# Altium footprint library movandi_pcb.PcbLib: 4 footprints
Each footprint in its own frame and in the unit in brackets; x right, y up, seen from the top. Pads: shape width x height; smd on the part's side, far side on the other; paste and mask are expansions set on the pad; w line width, h text height; cw(c..) or ccw(c..) is an arc to the next point about the centre after c.
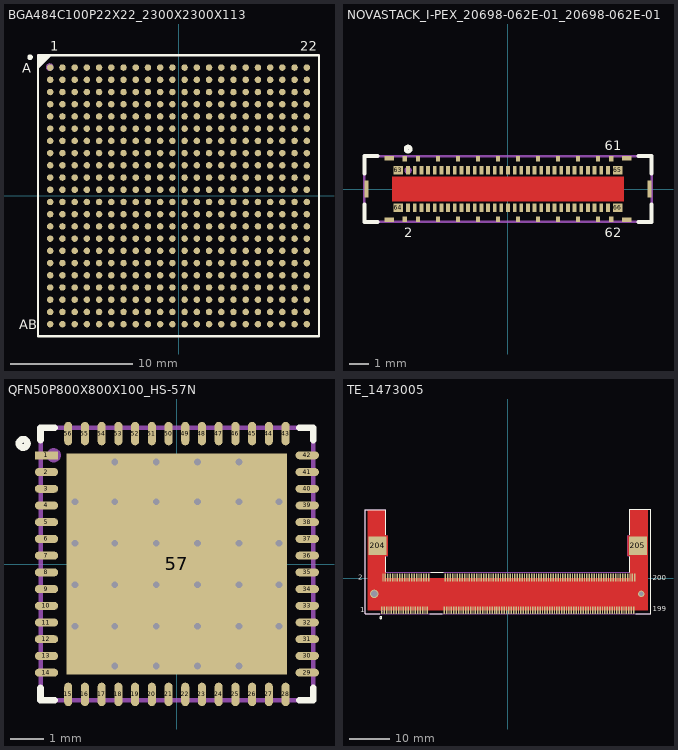
[diagram p0: the footprints below, top view; thin cyan lines are the x and y axes]

## BGA484C100P22X22_2300X2300X113 [mm] "BGA, 484-Leads, Body 23.00x23.00mmx1.13mm, Pitch 1.00mm"
height 1.13
pads (484):
  round 0.53 smd mask+0.102: A1(-10.5,10.5)
  round 0.53 smd: A2(-9.5,10.5) A3(-8.5,10.5) A4(-7.5,10.5) A5(-6.5,10.5) A6(-5.5,10.5) A7(-4.5,10.5) A8(-3.5,10.5) A9(-2.5,10.5) A10(-1.5,10.5) A11(-0.5,10.5) A12(0.5,10.5) A13(1.5,10.5) A14(2.5,10.5) A15(3.5,10.5) A16(4.5,10.5) A17(5.5,10.5) A18(6.5,10.5) A19(7.5,10.5) A20(8.5,10.5) A21(9.5,10.5) A22(10.5,10.5) AA1(-10.5,-9.5) AA2(-9.5,-9.5) AA3(-8.5,-9.5) AA4(-7.5,-9.5) AA5(-6.5,-9.5) AA6(-5.5,-9.5) AA7(-4.5,-9.5) AA8(-3.5,-9.5) AA9(-2.5,-9.5) AA10(-1.5,-9.5) AA11(-0.5,-9.5) AA12(0.5,-9.5) AA13(1.5,-9.5) AA14(2.5,-9.5) AA15(3.5,-9.5) AA16(4.5,-9.5) AA17(5.5,-9.5) AA18(6.5,-9.5) AA19(7.5,-9.5) AA20(8.5,-9.5) AA21(9.5,-9.5) AA22(10.5,-9.5) AB1(-10.5,-10.5) AB2(-9.5,-10.5) AB3(-8.5,-10.5) AB4(-7.5,-10.5) AB5(-6.5,-10.5) AB6(-5.5,-10.5) AB7(-4.5,-10.5) AB8(-3.5,-10.5) AB9(-2.5,-10.5) AB10(-1.5,-10.5) AB11(-0.5,-10.5) AB12(0.5,-10.5) AB13(1.5,-10.5) AB14(2.5,-10.5) AB15(3.5,-10.5) AB16(4.5,-10.5) AB17(5.5,-10.5) AB18(6.5,-10.5) AB19(7.5,-10.5) AB20(8.5,-10.5) AB21(9.5,-10.5) AB22(10.5,-10.5) B1(-10.5,9.5) B2(-9.5,9.5) B3(-8.5,9.5) B4(-7.5,9.5) B5(-6.5,9.5) B6(-5.5,9.5) B7(-4.5,9.5) B8(-3.5,9.5) B9(-2.5,9.5) B10(-1.5,9.5) B11(-0.5,9.5) B12(0.5,9.5) B13(1.5,9.5) B14(2.5,9.5) B15(3.5,9.5) B16(4.5,9.5) B17(5.5,9.5) B18(6.5,9.5) B19(7.5,9.5) B20(8.5,9.5) B21(9.5,9.5) B22(10.5,9.5) C1(-10.5,8.5) C2(-9.5,8.5) C3(-8.5,8.5) C4(-7.5,8.5) C5(-6.5,8.5) C6(-5.5,8.5) C7(-4.5,8.5) C8(-3.5,8.5) C9(-2.5,8.5) C10(-1.5,8.5) C11(-0.5,8.5) C12(0.5,8.5) C13(1.5,8.5) C14(2.5,8.5) C15(3.5,8.5) C16(4.5,8.5) C17(5.5,8.5) C18(6.5,8.5) C19(7.5,8.5) C20(8.5,8.5) C21(9.5,8.5) C22(10.5,8.5) D1(-10.5,7.5) D2(-9.5,7.5) D3(-8.5,7.5) D4(-7.5,7.5) D5(-6.5,7.5) D6(-5.5,7.5) D7(-4.5,7.5) D8(-3.5,7.5) D9(-2.5,7.5) D10(-1.5,7.5) D11(-0.5,7.5) D12(0.5,7.5) D13(1.5,7.5) D14(2.5,7.5) D15(3.5,7.5) D16(4.5,7.5) D17(5.5,7.5) D18(6.5,7.5) D19(7.5,7.5) D20(8.5,7.5) D21(9.5,7.5) D22(10.5,7.5) E1(-10.5,6.5) E2(-9.5,6.5) E3(-8.5,6.5) E4(-7.5,6.5) E5(-6.5,6.5) E6(-5.5,6.5) E7(-4.5,6.5) E8(-3.5,6.5) E9(-2.5,6.5) E10(-1.5,6.5) E11(-0.5,6.5) E12(0.5,6.5) E13(1.5,6.5) E14(2.5,6.5) E15(3.5,6.5) E16(4.5,6.5) E17(5.5,6.5) E18(6.5,6.5) E19(7.5,6.5) E20(8.5,6.5) E21(9.5,6.5) E22(10.5,6.5) F1(-10.5,5.5) F2(-9.5,5.5) F3(-8.5,5.5) F4(-7.5,5.5) F5(-6.5,5.5) F6(-5.5,5.5) F7(-4.5,5.5) F8(-3.5,5.5) F9(-2.5,5.5) F10(-1.5,5.5) F11(-0.5,5.5) F12(0.5,5.5) F13(1.5,5.5) F14(2.5,5.5) F15(3.5,5.5) F16(4.5,5.5) F17(5.5,5.5) F18(6.5,5.5) F19(7.5,5.5) F20(8.5,5.5) F21(9.5,5.5) F22(10.5,5.5) G1(-10.5,4.5) G2(-9.5,4.5) G3(-8.5,4.5) G4(-7.5,4.5) G5(-6.5,4.5) G6(-5.5,4.5) G7(-4.5,4.5) G8(-3.5,4.5) G9(-2.5,4.5) G10(-1.5,4.5) G11(-0.5,4.5) G12(0.5,4.5) G13(1.5,4.5) G14(2.5,4.5) G15(3.5,4.5) G16(4.5,4.5) G17(5.5,4.5) G18(6.5,4.5) G19(7.5,4.5) G20(8.5,4.5) G21(9.5,4.5) G22(10.5,4.5) H1(-10.5,3.5) H2(-9.5,3.5) H3(-8.5,3.5) H4(-7.5,3.5) H5(-6.5,3.5) H6(-5.5,3.5) H7(-4.5,3.5) H8(-3.5,3.5) H9(-2.5,3.5) H10(-1.5,3.5) H11(-0.5,3.5) H12(0.5,3.5) H13(1.5,3.5) H14(2.5,3.5) H15(3.5,3.5) H16(4.5,3.5) H17(5.5,3.5) H18(6.5,3.5) H19(7.5,3.5) H20(8.5,3.5) H21(9.5,3.5) H22(10.5,3.5) J1(-10.5,2.5) J2(-9.5,2.5) J3(-8.5,2.5) J4(-7.5,2.5) J5(-6.5,2.5) J6(-5.5,2.5) J7(-4.5,2.5) J8(-3.5,2.5) J9(-2.5,2.5) J10(-1.5,2.5) J11(-0.5,2.5) J12(0.5,2.5) J13(1.5,2.5) J14(2.5,2.5) J15(3.5,2.5) J16(4.5,2.5) J17(5.5,2.5) J18(6.5,2.5) J19(7.5,2.5) J20(8.5,2.5) J21(9.5,2.5) J22(10.5,2.5) K1(-10.5,1.5) K2(-9.5,1.5) K3(-8.5,1.5) K4(-7.5,1.5) K5(-6.5,1.5) K6(-5.5,1.5) K7(-4.5,1.5) K8(-3.5,1.5) K9(-2.5,1.5) K10(-1.5,1.5) K11(-0.5,1.5) K12(0.5,1.5) K13(1.5,1.5) K14(2.5,1.5) K15(3.5,1.5) K16(4.5,1.5) K17(5.5,1.5) K18(6.5,1.5) K19(7.5,1.5) K20(8.5,1.5) K21(9.5,1.5) K22(10.5,1.5) L1(-10.5,0.5) L2(-9.5,0.5) L3(-8.5,0.5) L4(-7.5,0.5) L5(-6.5,0.5) L6(-5.5,0.5) L7(-4.5,0.5) L8(-3.5,0.5) L9(-2.5,0.5) L10(-1.5,0.5) L11(-0.5,0.5) L12(0.5,0.5) L13(1.5,0.5) L14(2.5,0.5) L15(3.5,0.5) L16(4.5,0.5) L17(5.5,0.5) L18(6.5,0.5) L19(7.5,0.5) L20(8.5,0.5) L21(9.5,0.5) L22(10.5,0.5) M1(-10.5,-0.5) M2(-9.5,-0.5) M3(-8.5,-0.5) M4(-7.5,-0.5) M5(-6.5,-0.5) M6(-5.5,-0.5) M7(-4.5,-0.5) M8(-3.5,-0.5) M9(-2.5,-0.5) M10(-1.5,-0.5) M11(-0.5,-0.5) M12(0.5,-0.5) M13(1.5,-0.5) M14(2.5,-0.5) M15(3.5,-0.5) M16(4.5,-0.5) M17(5.5,-0.5) M18(6.5,-0.5) M19(7.5,-0.5) M20(8.5,-0.5) M21(9.5,-0.5) M22(10.5,-0.5) N1(-10.5,-1.5) N2(-9.5,-1.5) N3(-8.5,-1.5) N4(-7.5,-1.5) N5(-6.5,-1.5) N6(-5.5,-1.5) N7(-4.5,-1.5) N8(-3.5,-1.5) N9(-2.5,-1.5) N10(-1.5,-1.5) N11(-0.5,-1.5) N12(0.5,-1.5) N13(1.5,-1.5) N14(2.5,-1.5) N15(3.5,-1.5) N16(4.5,-1.5) N17(5.5,-1.5) N18(6.5,-1.5) N19(7.5,-1.5) N20(8.5,-1.5) N21(9.5,-1.5) N22(10.5,-1.5) P1(-10.5,-2.5) P2(-9.5,-2.5) P3(-8.5,-2.5) P4(-7.5,-2.5) P5(-6.5,-2.5) P6(-5.5,-2.5) P7(-4.5,-2.5) P8(-3.5,-2.5) P9(-2.5,-2.5) P10(-1.5,-2.5) P11(-0.5,-2.5) P12(0.5,-2.5) P13(1.5,-2.5) P14(2.5,-2.5) P15(3.5,-2.5) P16(4.5,-2.5) P17(5.5,-2.5) P18(6.5,-2.5) P19(7.5,-2.5) P20(8.5,-2.5) P21(9.5,-2.5) P22(10.5,-2.5) R1(-10.5,-3.5) R2(-9.5,-3.5) R3(-8.5,-3.5) R4(-7.5,-3.5) R5(-6.5,-3.5) R6(-5.5,-3.5) R7(-4.5,-3.5) R8(-3.5,-3.5) R9(-2.5,-3.5) R10(-1.5,-3.5) R11(-0.5,-3.5) R12(0.5,-3.5) R13(1.5,-3.5) R14(2.5,-3.5) R15(3.5,-3.5) R16(4.5,-3.5) R17(5.5,-3.5) R18(6.5,-3.5) R19(7.5,-3.5) R20(8.5,-3.5) R21(9.5,-3.5) R22(10.5,-3.5) T1(-10.5,-4.5) T2(-9.5,-4.5) T3(-8.5,-4.5) T4(-7.5,-4.5) T5(-6.5,-4.5) T6(-5.5,-4.5) T7(-4.5,-4.5) T8(-3.5,-4.5) T9(-2.5,-4.5) T10(-1.5,-4.5) T11(-0.5,-4.5) T12(0.5,-4.5) T13(1.5,-4.5) T14(2.5,-4.5) T15(3.5,-4.5) T16(4.5,-4.5) T17(5.5,-4.5) T18(6.5,-4.5) T19(7.5,-4.5) T20(8.5,-4.5) T21(9.5,-4.5) T22(10.5,-4.5) U1(-10.5,-5.5) U2(-9.5,-5.5) U3(-8.5,-5.5) U4(-7.5,-5.5) U5(-6.5,-5.5) U6(-5.5,-5.5) U7(-4.5,-5.5) U8(-3.5,-5.5) U9(-2.5,-5.5) U10(-1.5,-5.5) U11(-0.5,-5.5) U12(0.5,-5.5) U13(1.5,-5.5) U14(2.5,-5.5) U15(3.5,-5.5) U16(4.5,-5.5) U17(5.5,-5.5) U18(6.5,-5.5) U19(7.5,-5.5) U20(8.5,-5.5) U21(9.5,-5.5) U22(10.5,-5.5) V1(-10.5,-6.5) V2(-9.5,-6.5) V3(-8.5,-6.5) V4(-7.5,-6.5) V5(-6.5,-6.5) V6(-5.5,-6.5) V7(-4.5,-6.5) V8(-3.5,-6.5) V9(-2.5,-6.5) V10(-1.5,-6.5) V11(-0.5,-6.5) V12(0.5,-6.5) V13(1.5,-6.5) V14(2.5,-6.5) V15(3.5,-6.5) V16(4.5,-6.5) V17(5.5,-6.5) V18(6.5,-6.5) V19(7.5,-6.5) V20(8.5,-6.5) V21(9.5,-6.5) V22(10.5,-6.5) W1(-10.5,-7.5) W2(-9.5,-7.5) W3(-8.5,-7.5) W4(-7.5,-7.5) W5(-6.5,-7.5) W6(-5.5,-7.5) W7(-4.5,-7.5) W8(-3.5,-7.5) W9(-2.5,-7.5) W10(-1.5,-7.5) W11(-0.5,-7.5) W12(0.5,-7.5) W13(1.5,-7.5) W14(2.5,-7.5) W15(3.5,-7.5) W16(4.5,-7.5) W17(5.5,-7.5) W18(6.5,-7.5) W19(7.5,-7.5) W20(8.5,-7.5) W21(9.5,-7.5) W22(10.5,-7.5) Y1(-10.5,-8.5) Y2(-9.5,-8.5) Y3(-8.5,-8.5) Y4(-7.5,-8.5) Y5(-6.5,-8.5) Y6(-5.5,-8.5) Y7(-4.5,-8.5) Y8(-3.5,-8.5) Y9(-2.5,-8.5) Y10(-1.5,-8.5) Y11(-0.5,-8.5) Y12(0.5,-8.5) Y13(1.5,-8.5) Y14(2.5,-8.5) Y15(3.5,-8.5) Y16(4.5,-8.5) Y17(5.5,-8.5) Y18(6.5,-8.5) Y19(7.5,-8.5) Y20(8.5,-8.5) Y21(9.5,-8.5) Y22(10.5,-8.5)
Top Overlay:
  circle w0.203: c-12.151,11.351 r0.125
  region: -10.5,11.5 -11.5,10.5 -11.5,11.5
  lines w0.203: -11.5,10.5 -10.5,11.5 ; -11.5,-11.5 11.5,-11.5 11.5,11.5 -11.5,11.5 -11.5,-11.5
  text "AB" at -13.056,-10.922 h0.76
  text "22" at 9.982,11.862 h0.76
  text "1" at -10.516,11.862 h0.76
  text "A" at -12.776,10.084 h0.76
Mechanical 1:
  text "'.Designator'" at 0,0 h1.52
Mechanical 15:
  circle w0.127: c-10.541,10.541 r0.254
  lines w0.127: -11.5,-11.5 11.5,-11.5 11.5,11.5 -11.5,11.5 -11.5,-11.5
  text "AB" at -12.827,-10.77 h0.76
  text "22" at 10.363,11.887 h0.76
  text "A" at -12.776,10.084 h0.76
  text "1" at -10.516,11.862 h0.76
3D body: height 1.13, standoff 0, extent -11.5,-11.5 11.5,11.5

## NOVASTACK_I-PEX_20698-062E-01_20698-062E-01 [mm] "CONN REC 0.35 mm pitch, 62 POS SMD"
height 0.63
pads (96):
  rect 0.2x0.45 smd mask+0.051: 1(-5.25,0.975) 2(-5.25,-0.975) 3(-4.9,0.975) 4(-4.9,-0.975) 5(-4.55,0.975) 6(-4.55,-0.975) 7(-4.2,0.975) 8(-4.2,-0.975) 9(-3.85,0.975) 10(-3.85,-0.975) 11(-3.5,0.975) 12(-3.5,-0.975) 13(-3.15,0.975) 14(-3.15,-0.975) 15(-2.8,0.975) 16(-2.8,-0.975) 17(-2.45,0.975) 18(-2.45,-0.975) 19(-2.1,0.975) 20(-2.1,-0.975) 21(-1.75,0.975) 22(-1.75,-0.975) 23(-1.4,0.975) 24(-1.4,-0.975) 25(-1.05,0.975) 26(-1.05,-0.975) 27(-0.7,0.975) 28(-0.7,-0.975) 29(-0.35,0.975) 30(-0.35,-0.975) 31(0,0.975) 32(0,-0.975) 33(0.35,0.975) 34(0.35,-0.975) 35(0.7,0.975) 36(0.7,-0.975) 37(1.05,0.975) 38(1.05,-0.975) 39(1.4,0.975) 40(1.4,-0.975) 41(1.75,0.975) 42(1.75,-0.975) 43(2.1,0.975) 44(2.1,-0.975) 45(2.45,0.975) 46(2.45,-0.975) 47(2.8,0.975) 48(2.8,-0.975) 49(3.15,0.975) 50(3.15,-0.975) 51(3.5,0.975) 52(3.5,-0.975) 53(3.85,0.975) 54(3.85,-0.975) 55(4.2,0.975) 56(4.2,-0.975) 57(4.55,0.975) 58(4.55,-0.975) 59(4.9,0.975) 60(4.9,-0.975) 61(5.25,0.975) 62(5.25,-0.975)
  rect 0.5x0.45 smd mask+0.051: 63(-5.775,0.975) 64(-5.775,-0.975) 65(5.775,0.975) 66(5.775,-0.975)
  rect 0.5x0.23 smd mask+0.051: G1(-6.245,-1.615) G14(6.245,-1.615) G15(6.245,1.615) G28(-6.245,1.615)
  rect 0.22x0.28 smd mask+0.051: G2(-5.425,-1.59) G3(-4.725,-1.59) G4(-3.675,-1.59) G5(-2.625,-1.59) G6(-1.575,-1.59) G7(-0.525,-1.59) G8(0.525,-1.59) G9(1.575,-1.59) G10(2.625,-1.59) G11(3.675,-1.59) G12(4.725,-1.59) G13(5.425,-1.59) G16(5.425,1.59) G17(4.725,1.59) G18(3.675,1.59) G19(2.625,1.59) G20(1.575,1.59) G21(0.525,1.59) G22(-0.525,1.59) G23(-1.575,1.59) G24(-2.625,1.59) G25(-3.675,1.59) G26(-4.725,1.59) G27(-5.425,1.59)
  rect 0.23x0.9 smd mask+0.051: SH1(-7.435,0) SH2(7.435,0)
Top Layer:
  pour cut-out: -6.096,0.635 -6.096,-0.635 6.096,-0.635 6.096,0.635
Top Overlay:
  lines w0.203: -7.55,-0.8 -7.55,-1.73 -6.85,-1.73 ; -7.55,0.8 -7.55,1.73 -6.85,1.73 ; -5.124,2.118 ccw(c-5.25,2.1) -5.123,2.1 ; 6.85,-1.73 7.55,-1.73 7.55,-0.8 ; 6.85,1.73 7.55,1.73 7.55,0.8
  text "62" at 5.08,-2.54 h0.51
  text "61" at 5.08,2.032 h0.51
  text "2" at -5.461,-2.54 h0.51
Top Paste:
  region: -6.025,1.2 -5.525,1.2 -5.525,0.9 -6.025,0.9
  region: -6.025,-0.9 -5.525,-0.9 -5.525,-1.2 -6.025,-1.2
  region: 5.525,-0.9 6.025,-0.9 6.025,-1.2 5.525,-1.2
  region: 5.525,1.2 6.025,1.2 6.025,0.9 5.525,0.9
Mechanical 1:
  text "'.Designator'" at 0,0 h1.02
Mechanical 15:
  circle w0.127: c-5.25,0.975 r0.127
  lines w0.127: -7.55,-1.73 -7.55,1.73 7.55,1.73 7.55,-1.73 -7.55,-1.73
3D body: height 0.58, standoff 0, extent -7.45,-1.651 7.45,1.699

## QFN50P800X800X100_HS-57N [mm] "QFN, 56-Leads, Body 8.00x8.00mm, Pitch 0.50mm, Thermal Pad 6.60x6.60mm, IPC Medium Density"
height 1
pads (57):
  rect 0.7x0.24 smd: 1(-3.9,3.25)
  oval 0.7x0.24 smd: 2(-3.9,2.75) 3(-3.9,2.25) 4(-3.9,1.75) 5(-3.9,1.25) 6(-3.9,0.75) 7(-3.9,0.25) 8(-3.9,-0.25) 9(-3.9,-0.75) 10(-3.9,-1.25) 11(-3.9,-1.75) 12(-3.9,-2.25) 13(-3.9,-2.75) 14(-3.9,-3.25) 29(3.9,-3.25) 30(3.9,-2.75) 31(3.9,-2.25) 32(3.9,-1.75) 33(3.9,-1.25) 34(3.9,-0.75) 35(3.9,-0.25) 36(3.9,0.25) 37(3.9,0.75) 38(3.9,1.25) 39(3.9,1.75) 40(3.9,2.25) 41(3.9,2.75) 42(3.9,3.25)
  oval 0.24x0.7 smd: 15(-3.25,-3.9) 16(-2.75,-3.9) 17(-2.25,-3.9) 18(-1.75,-3.9) 19(-1.25,-3.9) 20(-0.75,-3.9) 21(-0.25,-3.9) 22(0.25,-3.9) 23(0.75,-3.9) 24(1.25,-3.9) 25(1.75,-3.9) 26(2.25,-3.9) 27(2.75,-3.9) 28(3.25,-3.9) 43(3.25,3.9) 44(2.75,3.9) 45(2.25,3.9) 46(1.75,3.9) 47(1.25,3.9) 48(0.75,3.9) 49(0.25,3.9) 50(-0.25,3.9) 51(-0.75,3.9) 52(-1.25,3.9) 53(-1.75,3.9) 54(-2.25,3.9) 55(-2.75,3.9) 56(-3.25,3.9)
  rect 6.6x6.6 smd paste-5: 57(0,0)
via 0.62,3.05 diameter 0.457 hole 0.203
via 1.86,3.05 diameter 0.457 hole 0.203
via -1.86,3.05 diameter 0.457 hole 0.203
via -0.62,3.05 diameter 0.457 hole 0.203
via 0.62,1.86 diameter 0.457 hole 0.203
via 1.86,1.86 diameter 0.457 hole 0.203
via 3.05,1.86 diameter 0.457 hole 0.203
via -3.05,1.86 diameter 0.457 hole 0.203
via -1.86,1.86 diameter 0.457 hole 0.203
via -0.62,1.86 diameter 0.457 hole 0.203
via 0.62,-3.05 diameter 0.457 hole 0.203
via 1.86,-3.05 diameter 0.457 hole 0.203
via -1.86,-3.05 diameter 0.457 hole 0.203
via -0.62,-3.05 diameter 0.457 hole 0.203
via 0.62,-1.86 diameter 0.457 hole 0.203
via 1.86,-1.86 diameter 0.457 hole 0.203
via 3.05,-1.86 diameter 0.457 hole 0.203
via -3.05,-1.86 diameter 0.457 hole 0.203
via -1.86,-1.86 diameter 0.457 hole 0.203
via -0.62,-1.86 diameter 0.457 hole 0.203
via 0.62,-0.62 diameter 0.457 hole 0.203
via 1.86,-0.62 diameter 0.457 hole 0.203
via 3.05,-0.62 diameter 0.457 hole 0.203
via -3.05,-0.62 diameter 0.457 hole 0.203
via -1.86,-0.62 diameter 0.457 hole 0.203
via -0.62,-0.62 diameter 0.457 hole 0.203
via 0.62,0.62 diameter 0.457 hole 0.203
via 1.86,0.62 diameter 0.457 hole 0.203
via 3.05,0.62 diameter 0.457 hole 0.203
via -3.05,0.62 diameter 0.457 hole 0.203
via -1.86,0.62 diameter 0.457 hole 0.203
via -0.62,0.62 diameter 0.457 hole 0.203
Top Overlay:
  circle w0.203: c-4.597,3.607 r0.125
  lines w0.203: -4.075,-3.708 -4.075,-4.075 -3.658,-4.075 ; -4.075,3.708 -4.075,4.075 -3.658,4.075 ; 3.658,-4.075 4.075,-4.075 4.075,-3.708 ; 3.658,4.075 4.075,4.075 4.075,3.708
Top Paste:
  region: -1.948,0.532 -2.988,0.532 -2.988,-0.508 -1.948,-0.508
  region: -1.948,-0.708 -2.988,-0.708 -2.988,-1.748 -1.948,-1.748
  region: -1.948,-1.948 -2.988,-1.948 -2.988,-2.988 -1.948,-2.988
  region: -1.948,1.772 -2.988,1.772 -2.988,0.732 -1.948,0.732
  region: -1.948,3.012 -2.988,3.012 -2.988,1.972 -1.948,1.972
  region: -0.708,0.532 -1.748,0.532 -1.748,-0.508 -0.708,-0.508
  region: -0.708,-0.708 -1.748,-0.708 -1.748,-1.748 -0.708,-1.748
  region: -0.708,-1.948 -1.748,-1.948 -1.748,-2.988 -0.708,-2.988
  region: -0.708,1.772 -1.748,1.772 -1.748,0.732 -0.708,0.732
  region: -0.708,3.012 -1.748,3.012 -1.748,1.972 -0.708,1.972
  rectangle: 1.948,-3.012 2.988,-1.972
  rectangle: 0.708,-3.012 1.748,-1.972
  rectangle: 1.948,-1.772 2.988,-0.732
  rectangle: 0.708,-1.772 1.748,-0.732
  rectangle: 1.948,0.708 2.988,1.748
  rectangle: 1.948,1.948 2.988,2.988
  rectangle: 0.708,1.948 1.748,2.988
  rectangle: 0.708,0.708 1.748,1.748
  rectangle: -0.532,1.948 0.508,2.988
  rectangle: -0.532,-3.012 0.508,-1.972
  rectangle: -0.532,-1.772 0.508,-0.732
  rectangle: -0.532,0.708 0.508,1.748
  rectangle: 1.948,-0.532 2.988,0.508
  rectangle: 0.708,-0.532 1.748,0.508
  rectangle: -0.532,-0.532 0.508,0.508
Mechanical 1:
  text "'.Designator'" at 0,0 h1.52
Mechanical 15:
  circle w0.127: c-3.683,3.251 r0.15
  lines w0.127: -4.075,-4.075 4.075,-4.075 4.075,4.075 -4.075,4.075 -4.075,-4.075
3D body: height 1, standoff 0, extent -4.125,-4.125 4.125,4.125

## TE_1473005 [mm] "200 Position SODIMM DDR2 SDRAM Socket Surface Mount, Right Angle"
height 9
pads (204):
  rect 0.35x2 smd paste+0 mask+0.051: 1(-31.499,-8.051) 2(-31.199,0.153) 3(-30.899,-8.051) 4(-30.599,0.153) 5(-30.299,-8.051) 6(-29.999,0.153) 7(-29.699,-8.051) 8(-29.399,0.153) 9(-29.099,-8.051) 10(-28.799,0.153) 11(-28.499,-8.051) 12(-28.199,0.153) 13(-27.899,-8.051) 14(-27.599,0.153) 15(-27.299,-8.051) 16(-26.999,0.153) 17(-26.699,-8.051) 18(-26.399,0.153) 19(-26.099,-8.051) 20(-25.799,0.153) 21(-25.5,-8.051) 22(-25.2,0.153) 23(-24.9,-8.051) 24(-24.6,0.153) 25(-24.3,-8.051) 26(-24,0.153) 27(-23.7,-8.051) 28(-23.4,0.153) 29(-23.1,-8.051) 30(-22.8,0.153) 31(-22.5,-8.051) 32(-22.2,0.153) 33(-21.9,-8.051) 34(-21.6,0.153) 35(-21.3,-8.051) 36(-21,0.153) 37(-20.7,-8.051) 38(-20.4,0.153) 39(-20.1,-8.051) 40(-19.8,0.153) 41(-15.9,-8.051) 42(-15.6,0.153) 43(-15.3,-8.051) 44(-15,0.153) 45(-14.7,-8.051) 46(-14.4,0.153) 47(-14.1,-8.051) 48(-13.8,0.153) 49(-13.5,-8.051) 50(-13.2,0.153) 51(-12.9,-8.051) 52(-12.6,0.153) 53(-12.3,-8.051) 54(-12,0.153) 55(-11.7,-8.051) 56(-11.4,0.153) 57(-11.101,-8.051) 58(-10.801,0.153) 59(-10.501,-8.051) 60(-10.201,0.153) 61(-9.901,-8.051) 62(-9.601,0.153) 63(-9.301,-8.051) 64(-9.001,0.153) 65(-8.701,-8.051) 66(-8.401,0.153) 67(-8.101,-8.051) 68(-7.801,0.153) 69(-7.501,-8.051) 70(-7.201,0.153) 71(-6.901,-8.051) 72(-6.601,0.153) 73(-6.301,-8.051) 74(-6.001,0.153) 75(-5.701,-8.051) 76(-5.401,0.153) 77(-5.101,-8.051) 78(-4.801,0.153) 79(-4.501,-8.051) 80(-4.201,0.153) 81(-3.901,-8.051) 82(-3.601,0.153) 83(-3.301,-8.051) 84(-3.001,0.153) 85(-2.701,-8.051) 86(-2.401,0.153) 87(-2.101,-8.051) 88(-1.801,0.153) 89(-1.501,-8.051) 90(-1.201,0.153) 91(-0.901,-8.051) 92(-0.601,0.153) 93(-0.301,-8.051) 94(-0.001,0.153) 95(0.299,-8.051) 96(0.599,0.153) 97(0.898,-8.051) 98(1.198,0.153) 99(1.498,-8.051) 100(1.798,0.153) 101(2.098,-8.051) 102(2.398,0.153) 103(2.698,-8.051) 104(2.998,0.153) 105(3.298,-8.051) 106(3.598,0.153) 107(3.898,-8.051) 108(4.198,0.153) 109(4.498,-8.051) 110(4.798,0.153) 111(5.098,-8.051) 112(5.398,0.153) 113(5.698,-8.051) 114(5.998,0.153) 115(6.298,-8.051) 116(6.598,0.153) 117(6.898,-8.051) 118(7.198,0.153) 119(7.498,-8.051) 120(7.798,0.153) 121(8.098,-8.051) 122(8.398,0.153) 123(8.698,-8.051) 124(8.998,0.153) 125(9.298,-8.051) 126(9.598,0.153) 127(9.898,-8.051) 128(10.198,0.153) 129(10.498,-8.051) 130(10.798,0.153) 131(11.098,-8.051) 132(11.398,0.153) 133(11.698,-8.051) 134(11.998,0.153) 135(12.297,-8.051) 136(12.597,0.153) 137(12.897,-8.051) 138(13.197,0.153) 139(13.497,-8.051) 140(13.797,0.153) 141(14.097,-8.051) 142(14.397,0.153) 143(14.697,-8.051) 144(14.997,0.153) 145(15.297,-8.051) 146(15.597,0.153) 147(15.897,-8.051) 148(16.197,0.153) 149(16.497,-8.051) 150(16.797,0.153) 151(17.097,-8.051) 152(17.397,0.153) 153(17.697,-8.051) 154(17.997,0.153) 155(18.297,-8.051) 156(18.597,0.153) 157(18.897,-8.051) 158(19.197,0.153) 159(19.497,-8.051) 160(19.797,0.153) 161(20.097,-8.051) 162(20.397,0.153) 163(20.697,-8.051) 164(20.997,0.153) 165(21.297,-8.051) 166(21.597,0.153) 167(21.897,-8.051) 168(22.197,0.153) 169(22.497,-8.051) 170(22.797,0.153) 171(23.097,-8.051) 172(23.397,0.153) 173(23.696,-8.051) 174(23.996,0.153) 175(24.296,-8.051) 176(24.596,0.153) 177(24.896,-8.051) 178(25.196,0.153) 179(25.496,-8.051) 180(25.796,0.153) 181(26.096,-8.051) 182(26.396,0.153) 183(26.696,-8.051) 184(26.996,0.153) 185(27.296,-8.051) 186(27.596,0.153) 187(27.896,-8.051) 188(28.196,0.153) 189(28.496,-8.051) 190(28.796,0.153) 191(29.096,-8.051) 192(29.396,0.153) 193(29.696,-8.051) 194(29.996,0.153) 195(30.296,-8.051) 196(30.596,0.153) 197(30.896,-8.051) 198(31.196,0.153) 199(31.496,-8.051) 200(31.796,0.153)
  round 2.108 hole 1.6: 202(-33.401,-3.949)
  round 1.6 hole 1.1 mask+0: 203(33.401,-3.949)
  rect 4.496x4.597 smd: 204(-32.549,8.051) 205(32.551,8.051)
Top Layer:
  pour cut-out: -34.975,17.018 -30.531,17.018 -30.531,10.535 -30.047,10.535 -30.047,5.556 -30.531,5.556 -30.531,0 30.533,0 30.533,5.556 30.049,5.556 30.049,10.535 30.533,10.535 30.533,17.2 34.977,17.2 34.977,-8.051 -34.975,-8.051
Top Overlay:
  circle w0.203: c-31.75,-9.906 r0.254
  lines w0.203: -31.984,-8.89 -35.687,-8.89 -35.687,17.145 -30.531,17.145 -30.531,10.795 ; -30.531,1.41 -30.531,5.341 ; -19.558,-8.89 -16.329,-8.89 ; -19.304,1.41 -16.075,1.41 ; 30.533,1.41 30.533,5.341 ; 30.533,10.795 30.533,17.2 35.814,17.2 35.814,-8.89 31.981,-8.89
  text "200" at 36.322,-0.508 h1.27
  text "199" at 36.322,-8.255 h1.27
  text "2" at -37.465,-0.381 h1.27
  text "1" at -36.957,-8.509 h1.27
Mechanical 1:
  text "'.Designator'" at 0,0 h1.52
Mechanical 15:
  circle w0.127: c-31.496,-8.001 r0.254
  lines w0.127: -35.686,-8.89 -35.686,3.416 -35.686,17.145 -30.531,17.145 -30.531,10.535 -30.047,10.535 -30.047,5.556 -30.531,5.556 -30.531,1.41 30.533,1.41 30.533,5.556 30.049,5.556 30.049,10.535 30.533,10.535 30.533,17.2 35.814,17.2 35.814,-8.89 -35.686,-8.89
3D body: height 5.3, standoff -0.6, extent -35.635,-8.902 35.865,17.148